# Altium integrated library Linear Technology PMIC-Switching Reg LT1074-LT8705.IntLib: 2252 symbols (part 104 of 124)
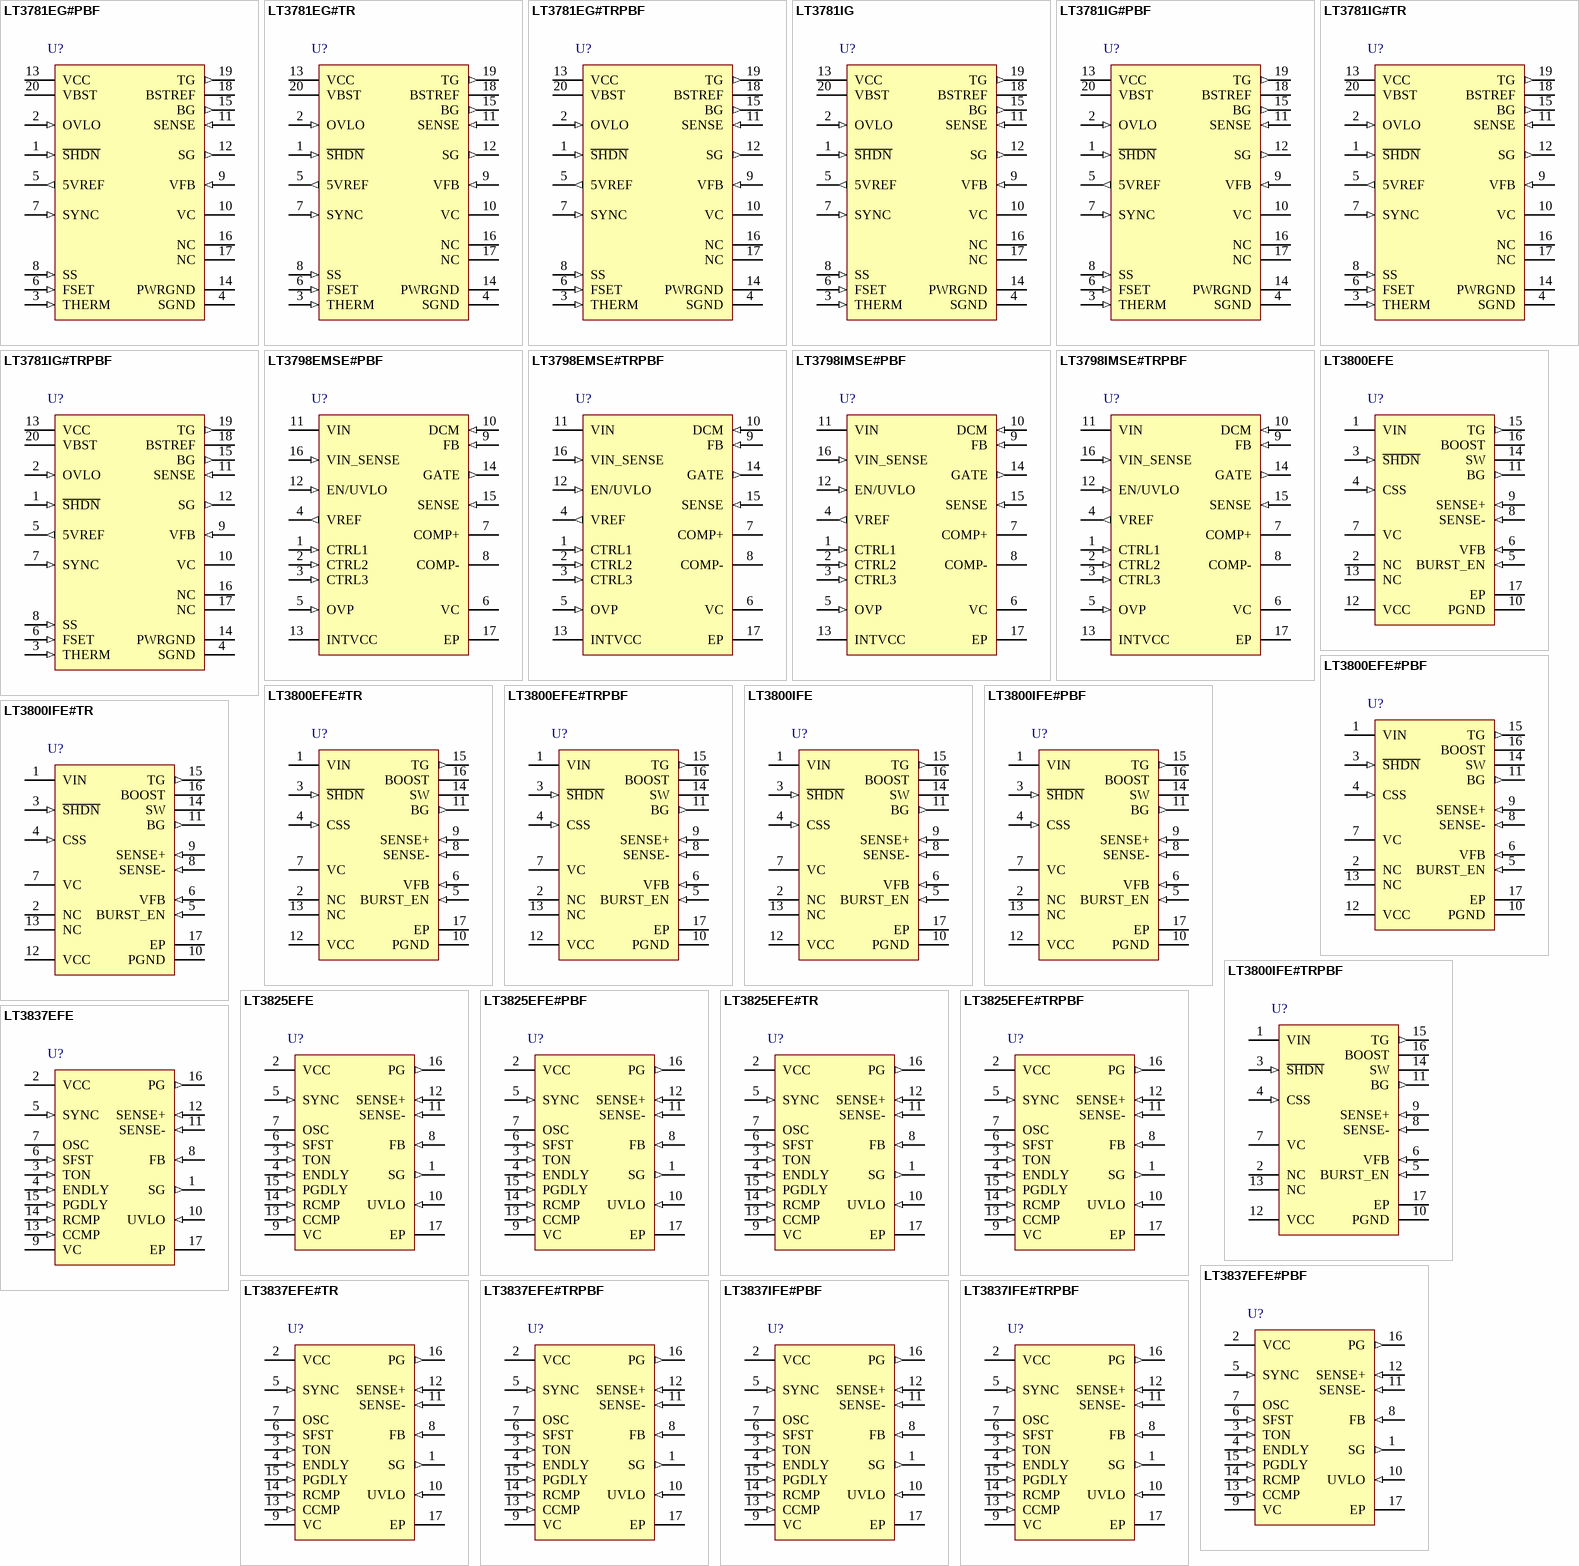
[diagram p174: symbols LT3781EG#PBF to LT3837IFE#TRPBF]

## LT3825EFE#TR
designator U?
Isolated No-Opto Synchronous Flyback Controller with Wide Input Supply Range, 16-pin SOP (FE-16-EPV-BC), -40 to 125 degC, Tape and Reel; Manufacturer: Linear Technology; PartNumber: LT3825EFE#TR; Number of Outputs: 1; PackageReference: FE-16; PackageDescription: 16-Pin Plastic TSSOP, Body 5 x 4.4 mm, Pitch 0.65 mm; RoHS: FALSE
footprint LT-FE-16-EPV-BC_N (SOP, 16-Leads, Body 5.1x4.5mm, Pitch 0.65mm, Thermal Pad 3.58x2.94mm, IPC Medium Density)
footprint LT-FE-16-EPV-BC_L (SOP, 16-Leads, Body 5.1x4.5mm, Pitch 0.65mm, Thermal Pad 3.58x2.94mm, IPC High Density)
footprint LT-FE-16-EPV-BC_M (SOP, 16-Leads, Body 5.1x4.5mm, Pitch 0.65mm, Thermal Pad 3.58x2.94mm, IPC Low Density)
pins: 1 SG (out) "Synchronous Gate Drive Output. This pin provides an output signal for a secondary-side synchronous switch. Large dynamic currents may flow during voltage transitions. See the Applications Information for details.", 2 VCC (power) "Supply Voltage Pin. Bypass this pin to ground with a 4.7uF capacitor or more.", 3 TON (in) "Pin for external programming resistor to set the minimum time that the primary switch is on for each cycle. Minimum turn-on facilitates the isolated feedback method. See Applications Information for details.", 4 ENDLY (in) "Pin for external programming resistor to set enable delay time. The enable delay time disables the feedback amplifier for a fixed time after the turn-off of the primary-side MOSFET. This allows the leakage inductance voltage (See Datasheet)", 5 SYNC (in) "Pin for synchronizing the internal oscillator with an external clock. The positive edge on a pulse causes the oscillator to discharge causing PG to go low (off) and SG high (on). The sync threshold is typically 1.53V. See (See Datasheet)", 6 SFST (in) "This pin, in conjunction with a capacitor to ground, controls the ramp-up of peak primary current as sensed through the sense resistor. This is used to control converter inrush current at start-up. The VC pin voltage cannot (See Datasheet)", 7 OSC "This pin in conjunction with an external capacitor defines the controller oscillator frequency. The frequency is approximately 100kHz ?100/COSC(pF).", 8 FB (in) "Pin for the feedback node for the power supply feedback amplifier. Feedback is usually sensed via a third winding and enabled during the flyback period. This pin also sinks additional current to compensate for load current (See Datasheet)", 9 VC "Pin used for frequency compensation for the switcher control loop. It is the output of the feedback amplifier and the input to the current comparator. Switcher frequency compensation components are normally placed on this (See Datasheet)", 10 UVLO (in) "A resistive divider from VIN to this pin sets an undervoltage lockout based upon VIN level (not VCC). When the UVLO pin is below its threshold, the gate drives are disabled, but the part draws its normal quiescent current (See Datasheet)", 11 SENSE- (in) "These pins are used to measure primary-side switch current through an external sense resistor. Peak primary-side current is used in the converter control loop. Make Kelvin connections to the sense resistor to reduce noise (See Datasheet)", 12 SENSE+ (in) "These pins are used to measure primary-side switch current through an external sense resistor. Peak primary-side current is used in the converter control loop. Make Kelvin connections to the sense resistor to reduce noise (See Datasheet)", 13 CCMP (in) "Pin for external filter capacitor for the optional load compensation function. Load compensation reduces the effects of parasitic resistances in the feedback sensing path. A 0.1uF ceramic capacitor suffices for most (See Datasheet)", 14 RCMP (in) "Pin for optional external load compensation resistor. Use of this pin allows for nominal compensation of parasitic resistances in the feedback sensing path. In less demanding applications, this resistor is not needed and (See Datasheet)", 15 PGDLY (in) "Pin for external programming resistor to set delay from synchronous gate turn-off to primary gate turn-on. See Applications Information for details.", 16 PG (out) "Gate Drive Pin for the Primary-Side MOSFET Switch. Large dynamic currents flow during voltage transitions. See the Applications Information for details.", 17 EP (power)

## LT3825EFE#TRPBF
designator U?
Isolated No-Opto Synchronous Flyback Controller with Wide Input Supply Range, 16-pin SOP (FE-16-EPV-BC), -40 to 125 degC, Pb-Free, Tape and Reel; Manufacturer: Linear Technology; PartNumber: LT3825EFE#TRPBF; Number of Outputs: 1; PackageReference: FE-16; PackageDescription: 16-Pin Plastic TSSOP, Body 5 x 4.4 mm, Pitch 0.65 mm; Supplier 1: Digi-Key; Supplier Part Number 1: LT3825EFE#TRPBF-ND; RoHS: TRUE
footprint LT-FE-16-EPV-BC_N (SOP, 16-Leads, Body 5.1x4.5mm, Pitch 0.65mm, Thermal Pad 3.58x2.94mm, IPC Medium Density)
footprint LT-FE-16-EPV-BC_L (SOP, 16-Leads, Body 5.1x4.5mm, Pitch 0.65mm, Thermal Pad 3.58x2.94mm, IPC High Density)
footprint LT-FE-16-EPV-BC_M (SOP, 16-Leads, Body 5.1x4.5mm, Pitch 0.65mm, Thermal Pad 3.58x2.94mm, IPC Low Density)
pins: 1 SG (out) "Synchronous Gate Drive Output. This pin provides an output signal for a secondary-side synchronous switch. Large dynamic currents may flow during voltage transitions. See the Applications Information for details.", 2 VCC (power) "Supply Voltage Pin. Bypass this pin to ground with a 4.7uF capacitor or more.", 3 TON (in) "Pin for external programming resistor to set the minimum time that the primary switch is on for each cycle. Minimum turn-on facilitates the isolated feedback method. See Applications Information for details.", 4 ENDLY (in) "Pin for external programming resistor to set enable delay time. The enable delay time disables the feedback amplifier for a fixed time after the turn-off of the primary-side MOSFET. This allows the leakage inductance voltage (See Datasheet)", 5 SYNC (in) "Pin for synchronizing the internal oscillator with an external clock. The positive edge on a pulse causes the oscillator to discharge causing PG to go low (off) and SG high (on). The sync threshold is typically 1.53V. See (See Datasheet)", 6 SFST (in) "This pin, in conjunction with a capacitor to ground, controls the ramp-up of peak primary current as sensed through the sense resistor. This is used to control converter inrush current at start-up. The VC pin voltage cannot (See Datasheet)", 7 OSC "This pin in conjunction with an external capacitor defines the controller oscillator frequency. The frequency is approximately 100kHz ?100/COSC(pF).", 8 FB (in) "Pin for the feedback node for the power supply feedback amplifier. Feedback is usually sensed via a third winding and enabled during the flyback period. This pin also sinks additional current to compensate for load current (See Datasheet)", 9 VC "Pin used for frequency compensation for the switcher control loop. It is the output of the feedback amplifier and the input to the current comparator. Switcher frequency compensation components are normally placed on this (See Datasheet)", 10 UVLO (in) "A resistive divider from VIN to this pin sets an undervoltage lockout based upon VIN level (not VCC). When the UVLO pin is below its threshold, the gate drives are disabled, but the part draws its normal quiescent current (See Datasheet)", 11 SENSE- (in) "These pins are used to measure primary-side switch current through an external sense resistor. Peak primary-side current is used in the converter control loop. Make Kelvin connections to the sense resistor to reduce noise (See Datasheet)", 12 SENSE+ (in) "These pins are used to measure primary-side switch current through an external sense resistor. Peak primary-side current is used in the converter control loop. Make Kelvin connections to the sense resistor to reduce noise (See Datasheet)", 13 CCMP (in) "Pin for external filter capacitor for the optional load compensation function. Load compensation reduces the effects of parasitic resistances in the feedback sensing path. A 0.1uF ceramic capacitor suffices for most (See Datasheet)", 14 RCMP (in) "Pin for optional external load compensation resistor. Use of this pin allows for nominal compensation of parasitic resistances in the feedback sensing path. In less demanding applications, this resistor is not needed and (See Datasheet)", 15 PGDLY (in) "Pin for external programming resistor to set delay from synchronous gate turn-off to primary gate turn-on. See Applications Information for details.", 16 PG (out) "Gate Drive Pin for the Primary-Side MOSFET Switch. Large dynamic currents flow during voltage transitions. See the Applications Information for details.", 17 EP (power)

## LT3837EFE
designator U?
Isolated No-Opto Synchronous Flyback Controller, 16-pin SOP (FE-16-EPV-BC), -40 to 125 degC; Manufacturer: Linear Technology; PartNumber: LT3837EFE; Number of Outputs: 1; PackageReference: FE-16; PackageDescription: 16-Pin Plastic TSSOP, Body 5 x 4.4 mm, Pitch 0.65 mm; RoHS: FALSE
footprint LT-FE-16-EPV-BC_N (SOP, 16-Leads, Body 5.1x4.5mm, Pitch 0.65mm, Thermal Pad 3.58x2.94mm, IPC Medium Density)
footprint LT-FE-16-EPV-BC_L (SOP, 16-Leads, Body 5.1x4.5mm, Pitch 0.65mm, Thermal Pad 3.58x2.94mm, IPC High Density)
footprint LT-FE-16-EPV-BC_M (SOP, 16-Leads, Body 5.1x4.5mm, Pitch 0.65mm, Thermal Pad 3.58x2.94mm, IPC Low Density)
pins: 1 SG (out) "Synchronous Gate Drive Output. This pin provides an output signal for a secondary-side synchronous switch. Large dynamic currents may flow during voltage transitions. See the Applications Information for details.", 2 VCC (power) "Supply Voltage Pin. Bypass this pin to ground with a 4.7uF capacitor or more.", 3 TON (in) "Pin for external programming resistor to set the minimum time that the primary switch is on for each cycle. Minimum turn-on facilitates the isolated feedback method. See Applications Information for details.", 4 ENDLY (in) "Pin for external programming resistor to set enable delay time. The enable delay time disables the feedback amplifier for a fixed time after the turn-off of the primary-side MOSFET. This allows the leakage inductance voltage (See Datasheet)", 5 SYNC (in) "Pin for synchronizing the internal oscillator with an external clock. The positive edge on a pulse causes the oscillator to discharge causing PG to go low (off) and SG high (on). The sync threshold is typically 1.53V. See (See Datasheet)", 6 SFST (in) "This pin, in conjunction with a capacitor to ground, controls the ramp-up of peak primary current as sensed through the sense resistor. This is used to control converter inrush current at start-up. The VC pin voltage cannot (See Datasheet)", 7 OSC "This pin in conjunction with an external capacitor defines the controller oscillator frequency. The frequency is approximately 100kHz ?100/COSC(pF).", 8 FB (in) "Pin for the feedback node for the power supply feedback amplifier. Feedback is usually sensed via a third winding and enabled during the flyback period. This pin also sinks additional current to compensate for load current (See Datasheet)", 9 VC "Pin used for frequency compensation for the switcher control loop. It is the output of the feedback amplifier and the input to the current comparator. Switcher frequency compensation components are normally placed on this (See Datasheet)", 10 UVLO (in) "A resistive divider from VIN to this pin sets an undervoltage lockout based upon VIN level (not VCC). When the UVLO pin is below its threshold, the gate drives are disabled, but the part draws its normal quiescent current (See Datasheet)", 11 SENSE- (in) "These pins are used to measure primary-side switch current through an external sense resistor. Peak primary-side current is used in the converter control loop. Make Kelvin connections to the sense resistor to reduce noise (See Datasheet)", 12 SENSE+ (in) "These pins are used to measure primary-side switch current through an external sense resistor. Peak primary-side current is used in the converter control loop. Make Kelvin connections to the sense resistor to reduce noise (See Datasheet)", 13 CCMP (in) "Pin for external filter capacitor for the optional load compensation function. Load compensation reduces the effects of parasitic resistances in the feedback sensing path. A 0.1uF ceramic capacitor suffices for most (See Datasheet)", 14 RCMP (in) "Pin for optional external load compensation resistor. Use of this pin allows for nominal compensation of parasitic resistances in the feedback sensing path. In less demanding applications, this resistor is not needed and (See Datasheet)", 15 PGDLY (in) "Pin for external programming resistor to set delay from synchronous gate turn-off to primary gate turn-on. See Applications Information for details.", 16 PG (out) "Gate Drive Pin for the Primary-Side MOSFET Switch. Large dynamic currents flow during voltage transitions. See the Applications Information for details.", 17 EP (power)

## LT3837EFE#PBF
designator U?
Isolated No-Opto Synchronous Flyback Controller, 16-pin SOP (FE-16-EPV-BC), -40 to 125 degC, Pb-Free; Manufacturer: Linear Technology; PartNumber: LT3837EFE#PBF; Number of Outputs: 1; PackageReference: FE-16; PackageDescription: 16-Pin Plastic TSSOP, Body 5 x 4.4 mm, Pitch 0.65 mm; Supplier 1: Digi-Key; Supplier Part Number 1: LT3837EFE#PBF-ND; RoHS: TRUE
footprint LT-FE-16-EPV-BC_N (SOP, 16-Leads, Body 5.1x4.5mm, Pitch 0.65mm, Thermal Pad 3.58x2.94mm, IPC Medium Density)
footprint LT-FE-16-EPV-BC_L (SOP, 16-Leads, Body 5.1x4.5mm, Pitch 0.65mm, Thermal Pad 3.58x2.94mm, IPC High Density)
footprint LT-FE-16-EPV-BC_M (SOP, 16-Leads, Body 5.1x4.5mm, Pitch 0.65mm, Thermal Pad 3.58x2.94mm, IPC Low Density)
pins: 1 SG (out) "Synchronous Gate Drive Output. This pin provides an output signal for a secondary-side synchronous switch. Large dynamic currents may flow during voltage transitions. See the Applications Information for details.", 2 VCC (power) "Supply Voltage Pin. Bypass this pin to ground with a 4.7uF capacitor or more.", 3 TON (in) "Pin for external programming resistor to set the minimum time that the primary switch is on for each cycle. Minimum turn-on facilitates the isolated feedback method. See Applications Information for details.", 4 ENDLY (in) "Pin for external programming resistor to set enable delay time. The enable delay time disables the feedback amplifier for a fixed time after the turn-off of the primary-side MOSFET. This allows the leakage inductance voltage (See Datasheet)", 5 SYNC (in) "Pin for synchronizing the internal oscillator with an external clock. The positive edge on a pulse causes the oscillator to discharge causing PG to go low (off) and SG high (on). The sync threshold is typically 1.53V. See (See Datasheet)", 6 SFST (in) "This pin, in conjunction with a capacitor to ground, controls the ramp-up of peak primary current as sensed through the sense resistor. This is used to control converter inrush current at start-up. The VC pin voltage cannot (See Datasheet)", 7 OSC "This pin in conjunction with an external capacitor defines the controller oscillator frequency. The frequency is approximately 100kHz ?100/COSC(pF).", 8 FB (in) "Pin for the feedback node for the power supply feedback amplifier. Feedback is usually sensed via a third winding and enabled during the flyback period. This pin also sinks additional current to compensate for load current (See Datasheet)", 9 VC "Pin used for frequency compensation for the switcher control loop. It is the output of the feedback amplifier and the input to the current comparator. Switcher frequency compensation components are normally placed on this (See Datasheet)", 10 UVLO (in) "A resistive divider from VIN to this pin sets an undervoltage lockout based upon VIN level (not VCC). When the UVLO pin is below its threshold, the gate drives are disabled, but the part draws its normal quiescent current (See Datasheet)", 11 SENSE- (in) "These pins are used to measure primary-side switch current through an external sense resistor. Peak primary-side current is used in the converter control loop. Make Kelvin connections to the sense resistor to reduce noise (See Datasheet)", 12 SENSE+ (in) "These pins are used to measure primary-side switch current through an external sense resistor. Peak primary-side current is used in the converter control loop. Make Kelvin connections to the sense resistor to reduce noise (See Datasheet)", 13 CCMP (in) "Pin for external filter capacitor for the optional load compensation function. Load compensation reduces the effects of parasitic resistances in the feedback sensing path. A 0.1uF ceramic capacitor suffices for most (See Datasheet)", 14 RCMP (in) "Pin for optional external load compensation resistor. Use of this pin allows for nominal compensation of parasitic resistances in the feedback sensing path. In less demanding applications, this resistor is not needed and (See Datasheet)", 15 PGDLY (in) "Pin for external programming resistor to set delay from synchronous gate turn-off to primary gate turn-on. See Applications Information for details.", 16 PG (out) "Gate Drive Pin for the Primary-Side MOSFET Switch. Large dynamic currents flow during voltage transitions. See the Applications Information for details.", 17 EP (power)

## LT3837EFE#TR
designator U?
Isolated No-Opto Synchronous Flyback Controller, 16-pin SOP (FE-16-EPV-BC), -40 to 125 degC, Tape and Reel; Manufacturer: Linear Technology; PartNumber: LT3837EFE#TR; Number of Outputs: 1; PackageReference: FE-16; PackageDescription: 16-Pin Plastic TSSOP, Body 5 x 4.4 mm, Pitch 0.65 mm; RoHS: FALSE
footprint LT-FE-16-EPV-BC_N (SOP, 16-Leads, Body 5.1x4.5mm, Pitch 0.65mm, Thermal Pad 3.58x2.94mm, IPC Medium Density)
footprint LT-FE-16-EPV-BC_L (SOP, 16-Leads, Body 5.1x4.5mm, Pitch 0.65mm, Thermal Pad 3.58x2.94mm, IPC High Density)
footprint LT-FE-16-EPV-BC_M (SOP, 16-Leads, Body 5.1x4.5mm, Pitch 0.65mm, Thermal Pad 3.58x2.94mm, IPC Low Density)
pins: 1 SG (out) "Synchronous Gate Drive Output. This pin provides an output signal for a secondary-side synchronous switch. Large dynamic currents may flow during voltage transitions. See the Applications Information for details.", 2 VCC (power) "Supply Voltage Pin. Bypass this pin to ground with a 4.7uF capacitor or more.", 3 TON (in) "Pin for external programming resistor to set the minimum time that the primary switch is on for each cycle. Minimum turn-on facilitates the isolated feedback method. See Applications Information for details.", 4 ENDLY (in) "Pin for external programming resistor to set enable delay time. The enable delay time disables the feedback amplifier for a fixed time after the turn-off of the primary-side MOSFET. This allows the leakage inductance voltage (See Datasheet)", 5 SYNC (in) "Pin for synchronizing the internal oscillator with an external clock. The positive edge on a pulse causes the oscillator to discharge causing PG to go low (off) and SG high (on). The sync threshold is typically 1.53V. See (See Datasheet)", 6 SFST (in) "This pin, in conjunction with a capacitor to ground, controls the ramp-up of peak primary current as sensed through the sense resistor. This is used to control converter inrush current at start-up. The VC pin voltage cannot (See Datasheet)", 7 OSC "This pin in conjunction with an external capacitor defines the controller oscillator frequency. The frequency is approximately 100kHz ?100/COSC(pF).", 8 FB (in) "Pin for the feedback node for the power supply feedback amplifier. Feedback is usually sensed via a third winding and enabled during the flyback period. This pin also sinks additional current to compensate for load current (See Datasheet)", 9 VC "Pin used for frequency compensation for the switcher control loop. It is the output of the feedback amplifier and the input to the current comparator. Switcher frequency compensation components are normally placed on this (See Datasheet)", 10 UVLO (in) "A resistive divider from VIN to this pin sets an undervoltage lockout based upon VIN level (not VCC). When the UVLO pin is below its threshold, the gate drives are disabled, but the part draws its normal quiescent current (See Datasheet)", 11 SENSE- (in) "These pins are used to measure primary-side switch current through an external sense resistor. Peak primary-side current is used in the converter control loop. Make Kelvin connections to the sense resistor to reduce noise (See Datasheet)", 12 SENSE+ (in) "These pins are used to measure primary-side switch current through an external sense resistor. Peak primary-side current is used in the converter control loop. Make Kelvin connections to the sense resistor to reduce noise (See Datasheet)", 13 CCMP (in) "Pin for external filter capacitor for the optional load compensation function. Load compensation reduces the effects of parasitic resistances in the feedback sensing path. A 0.1uF ceramic capacitor suffices for most (See Datasheet)", 14 RCMP (in) "Pin for optional external load compensation resistor. Use of this pin allows for nominal compensation of parasitic resistances in the feedback sensing path. In less demanding applications, this resistor is not needed and (See Datasheet)", 15 PGDLY (in) "Pin for external programming resistor to set delay from synchronous gate turn-off to primary gate turn-on. See Applications Information for details.", 16 PG (out) "Gate Drive Pin for the Primary-Side MOSFET Switch. Large dynamic currents flow during voltage transitions. See the Applications Information for details.", 17 EP (power)

## LT3837EFE#TRPBF
designator U?
Isolated No-Opto Synchronous Flyback Controller, 16-pin SOP (FE-16-EPV-BC), -40 to 125 degC, Pb-Free, Tape and Reel; Manufacturer: Linear Technology; PartNumber: LT3837EFE#TRPBF; Number of Outputs: 1; PackageReference: FE-16; PackageDescription: 16-Pin Plastic TSSOP, Body 5 x 4.4 mm, Pitch 0.65 mm; Supplier 1: Digi-Key; Supplier Part Number 1: LT3837EFE#TRPBF-ND; RoHS: TRUE
footprint LT-FE-16-EPV-BC_N (SOP, 16-Leads, Body 5.1x4.5mm, Pitch 0.65mm, Thermal Pad 3.58x2.94mm, IPC Medium Density)
footprint LT-FE-16-EPV-BC_L (SOP, 16-Leads, Body 5.1x4.5mm, Pitch 0.65mm, Thermal Pad 3.58x2.94mm, IPC High Density)
footprint LT-FE-16-EPV-BC_M (SOP, 16-Leads, Body 5.1x4.5mm, Pitch 0.65mm, Thermal Pad 3.58x2.94mm, IPC Low Density)
pins: 1 SG (out) "Synchronous Gate Drive Output. This pin provides an output signal for a secondary-side synchronous switch. Large dynamic currents may flow during voltage transitions. See the Applications Information for details.", 2 VCC (power) "Supply Voltage Pin. Bypass this pin to ground with a 4.7uF capacitor or more.", 3 TON (in) "Pin for external programming resistor to set the minimum time that the primary switch is on for each cycle. Minimum turn-on facilitates the isolated feedback method. See Applications Information for details.", 4 ENDLY (in) "Pin for external programming resistor to set enable delay time. The enable delay time disables the feedback amplifier for a fixed time after the turn-off of the primary-side MOSFET. This allows the leakage inductance voltage (See Datasheet)", 5 SYNC (in) "Pin for synchronizing the internal oscillator with an external clock. The positive edge on a pulse causes the oscillator to discharge causing PG to go low (off) and SG high (on). The sync threshold is typically 1.53V. See (See Datasheet)", 6 SFST (in) "This pin, in conjunction with a capacitor to ground, controls the ramp-up of peak primary current as sensed through the sense resistor. This is used to control converter inrush current at start-up. The VC pin voltage cannot (See Datasheet)", 7 OSC "This pin in conjunction with an external capacitor defines the controller oscillator frequency. The frequency is approximately 100kHz ?100/COSC(pF).", 8 FB (in) "Pin for the feedback node for the power supply feedback amplifier. Feedback is usually sensed via a third winding and enabled during the flyback period. This pin also sinks additional current to compensate for load current (See Datasheet)", 9 VC "Pin used for frequency compensation for the switcher control loop. It is the output of the feedback amplifier and the input to the current comparator. Switcher frequency compensation components are normally placed on this (See Datasheet)", 10 UVLO (in) "A resistive divider from VIN to this pin sets an undervoltage lockout based upon VIN level (not VCC). When the UVLO pin is below its threshold, the gate drives are disabled, but the part draws its normal quiescent current (See Datasheet)", 11 SENSE- (in) "These pins are used to measure primary-side switch current through an external sense resistor. Peak primary-side current is used in the converter control loop. Make Kelvin connections to the sense resistor to reduce noise (See Datasheet)", 12 SENSE+ (in) "These pins are used to measure primary-side switch current through an external sense resistor. Peak primary-side current is used in the converter control loop. Make Kelvin connections to the sense resistor to reduce noise (See Datasheet)", 13 CCMP (in) "Pin for external filter capacitor for the optional load compensation function. Load compensation reduces the effects of parasitic resistances in the feedback sensing path. A 0.1uF ceramic capacitor suffices for most (See Datasheet)", 14 RCMP (in) "Pin for optional external load compensation resistor. Use of this pin allows for nominal compensation of parasitic resistances in the feedback sensing path. In less demanding applications, this resistor is not needed and (See Datasheet)", 15 PGDLY (in) "Pin for external programming resistor to set delay from synchronous gate turn-off to primary gate turn-on. See Applications Information for details.", 16 PG (out) "Gate Drive Pin for the Primary-Side MOSFET Switch. Large dynamic currents flow during voltage transitions. See the Applications Information for details.", 17 EP (power)

## LT3837IFE#PBF
designator U?
Isolated No-Opto Synchronous Flyback Controller, 16-pin SOP (FE-16-EPV-BC), -40 to 125 degC, Pb-Free; Manufacturer: Linear Technology; PartNumber: LT3837IFE#PBF; Number of Outputs: 1; PackageReference: FE-16; PackageDescription: 16-Pin Plastic TSSOP, Body 5 x 4.4 mm, Pitch 0.65 mm; Supplier 1: Digi-Key; Supplier Part Number 1: LT3837IFE#PBF-ND; RoHS: TRUE
footprint LT-FE-16-EPV-BC_N (SOP, 16-Leads, Body 5.1x4.5mm, Pitch 0.65mm, Thermal Pad 3.58x2.94mm, IPC Medium Density)
footprint LT-FE-16-EPV-BC_L (SOP, 16-Leads, Body 5.1x4.5mm, Pitch 0.65mm, Thermal Pad 3.58x2.94mm, IPC High Density)
footprint LT-FE-16-EPV-BC_M (SOP, 16-Leads, Body 5.1x4.5mm, Pitch 0.65mm, Thermal Pad 3.58x2.94mm, IPC Low Density)
pins: 1 SG (out) "Synchronous Gate Drive Output. This pin provides an output signal for a secondary-side synchronous switch. Large dynamic currents may flow during voltage transitions. See the Applications Information for details.", 2 VCC (power) "Supply Voltage Pin. Bypass this pin to ground with a 4.7uF capacitor or more.", 3 TON (in) "Pin for external programming resistor to set the minimum time that the primary switch is on for each cycle. Minimum turn-on facilitates the isolated feedback method. See Applications Information for details.", 4 ENDLY (in) "Pin for external programming resistor to set enable delay time. The enable delay time disables the feedback amplifier for a fixed time after the turn-off of the primary-side MOSFET. This allows the leakage inductance voltage (See Datasheet)", 5 SYNC (in) "Pin for synchronizing the internal oscillator with an external clock. The positive edge on a pulse causes the oscillator to discharge causing PG to go low (off) and SG high (on). The sync threshold is typically 1.53V. See (See Datasheet)", 6 SFST (in) "This pin, in conjunction with a capacitor to ground, controls the ramp-up of peak primary current as sensed through the sense resistor. This is used to control converter inrush current at start-up. The VC pin voltage cannot (See Datasheet)", 7 OSC "This pin in conjunction with an external capacitor defines the controller oscillator frequency. The frequency is approximately 100kHz ?100/COSC(pF).", 8 FB (in) "Pin for the feedback node for the power supply feedback amplifier. Feedback is usually sensed via a third winding and enabled during the flyback period. This pin also sinks additional current to compensate for load current (See Datasheet)", 9 VC "Pin used for frequency compensation for the switcher control loop. It is the output of the feedback amplifier and the input to the current comparator. Switcher frequency compensation components are normally placed on this (See Datasheet)", 10 UVLO (in) "A resistive divider from VIN to this pin sets an undervoltage lockout based upon VIN level (not VCC). When the UVLO pin is below its threshold, the gate drives are disabled, but the part draws its normal quiescent current (See Datasheet)", 11 SENSE- (in) "These pins are used to measure primary-side switch current through an external sense resistor. Peak primary-side current is used in the converter control loop. Make Kelvin connections to the sense resistor to reduce noise (See Datasheet)", 12 SENSE+ (in) "These pins are used to measure primary-side switch current through an external sense resistor. Peak primary-side current is used in the converter control loop. Make Kelvin connections to the sense resistor to reduce noise (See Datasheet)", 13 CCMP (in) "Pin for external filter capacitor for the optional load compensation function. Load compensation reduces the effects of parasitic resistances in the feedback sensing path. A 0.1uF ceramic capacitor suffices for most (See Datasheet)", 14 RCMP (in) "Pin for optional external load compensation resistor. Use of this pin allows for nominal compensation of parasitic resistances in the feedback sensing path. In less demanding applications, this resistor is not needed and (See Datasheet)", 15 PGDLY (in) "Pin for external programming resistor to set delay from synchronous gate turn-off to primary gate turn-on. See Applications Information for details.", 16 PG (out) "Gate Drive Pin for the Primary-Side MOSFET Switch. Large dynamic currents flow during voltage transitions. See the Applications Information for details.", 17 EP (power)

## LT3837IFE#TRPBF
designator U?
Isolated No-Opto Synchronous Flyback Controller, 16-pin SOP (FE-16-EPV-BC), -40 to 125 degC, Pb-Free, Tape and Reel; Manufacturer: Linear Technology; PartNumber: LT3837IFE#TRPBF; Number of Outputs: 1; PackageReference: FE-16; PackageDescription: 16-Pin Plastic TSSOP, Body 5 x 4.4 mm, Pitch 0.65 mm; Supplier 1: Digi-Key; Supplier Part Number 1: LT3837IFE#TRPBF-ND; RoHS: TRUE
footprint LT-FE-16-EPV-BC_N (SOP, 16-Leads, Body 5.1x4.5mm, Pitch 0.65mm, Thermal Pad 3.58x2.94mm, IPC Medium Density)
footprint LT-FE-16-EPV-BC_L (SOP, 16-Leads, Body 5.1x4.5mm, Pitch 0.65mm, Thermal Pad 3.58x2.94mm, IPC High Density)
footprint LT-FE-16-EPV-BC_M (SOP, 16-Leads, Body 5.1x4.5mm, Pitch 0.65mm, Thermal Pad 3.58x2.94mm, IPC Low Density)
pins: 1 SG (out) "Synchronous Gate Drive Output. This pin provides an output signal for a secondary-side synchronous switch. Large dynamic currents may flow during voltage transitions. See the Applications Information for details.", 2 VCC (power) "Supply Voltage Pin. Bypass this pin to ground with a 4.7uF capacitor or more.", 3 TON (in) "Pin for external programming resistor to set the minimum time that the primary switch is on for each cycle. Minimum turn-on facilitates the isolated feedback method. See Applications Information for details.", 4 ENDLY (in) "Pin for external programming resistor to set enable delay time. The enable delay time disables the feedback amplifier for a fixed time after the turn-off of the primary-side MOSFET. This allows the leakage inductance voltage (See Datasheet)", 5 SYNC (in) "Pin for synchronizing the internal oscillator with an external clock. The positive edge on a pulse causes the oscillator to discharge causing PG to go low (off) and SG high (on). The sync threshold is typically 1.53V. See (See Datasheet)", 6 SFST (in) "This pin, in conjunction with a capacitor to ground, controls the ramp-up of peak primary current as sensed through the sense resistor. This is used to control converter inrush current at start-up. The VC pin voltage cannot (See Datasheet)", 7 OSC "This pin in conjunction with an external capacitor defines the controller oscillator frequency. The frequency is approximately 100kHz ?100/COSC(pF).", 8 FB (in) "Pin for the feedback node for the power supply feedback amplifier. Feedback is usually sensed via a third winding and enabled during the flyback period. This pin also sinks additional current to compensate for load current (See Datasheet)", 9 VC "Pin used for frequency compensation for the switcher control loop. It is the output of the feedback amplifier and the input to the current comparator. Switcher frequency compensation components are normally placed on this (See Datasheet)", 10 UVLO (in) "A resistive divider from VIN to this pin sets an undervoltage lockout based upon VIN level (not VCC). When the UVLO pin is below its threshold, the gate drives are disabled, but the part draws its normal quiescent current (See Datasheet)", 11 SENSE- (in) "These pins are used to measure primary-side switch current through an external sense resistor. Peak primary-side current is used in the converter control loop. Make Kelvin connections to the sense resistor to reduce noise (See Datasheet)", 12 SENSE+ (in) "These pins are used to measure primary-side switch current through an external sense resistor. Peak primary-side current is used in the converter control loop. Make Kelvin connections to the sense resistor to reduce noise (See Datasheet)", 13 CCMP (in) "Pin for external filter capacitor for the optional load compensation function. Load compensation reduces the effects of parasitic resistances in the feedback sensing path. A 0.1uF ceramic capacitor suffices for most (See Datasheet)", 14 RCMP (in) "Pin for optional external load compensation resistor. Use of this pin allows for nominal compensation of parasitic resistances in the feedback sensing path. In less demanding applications, this resistor is not needed and (See Datasheet)", 15 PGDLY (in) "Pin for external programming resistor to set delay from synchronous gate turn-off to primary gate turn-on. See Applications Information for details.", 16 PG (out) "Gate Drive Pin for the Primary-Side MOSFET Switch. Large dynamic currents flow during voltage transitions. See the Applications Information for details.", 17 EP (power)

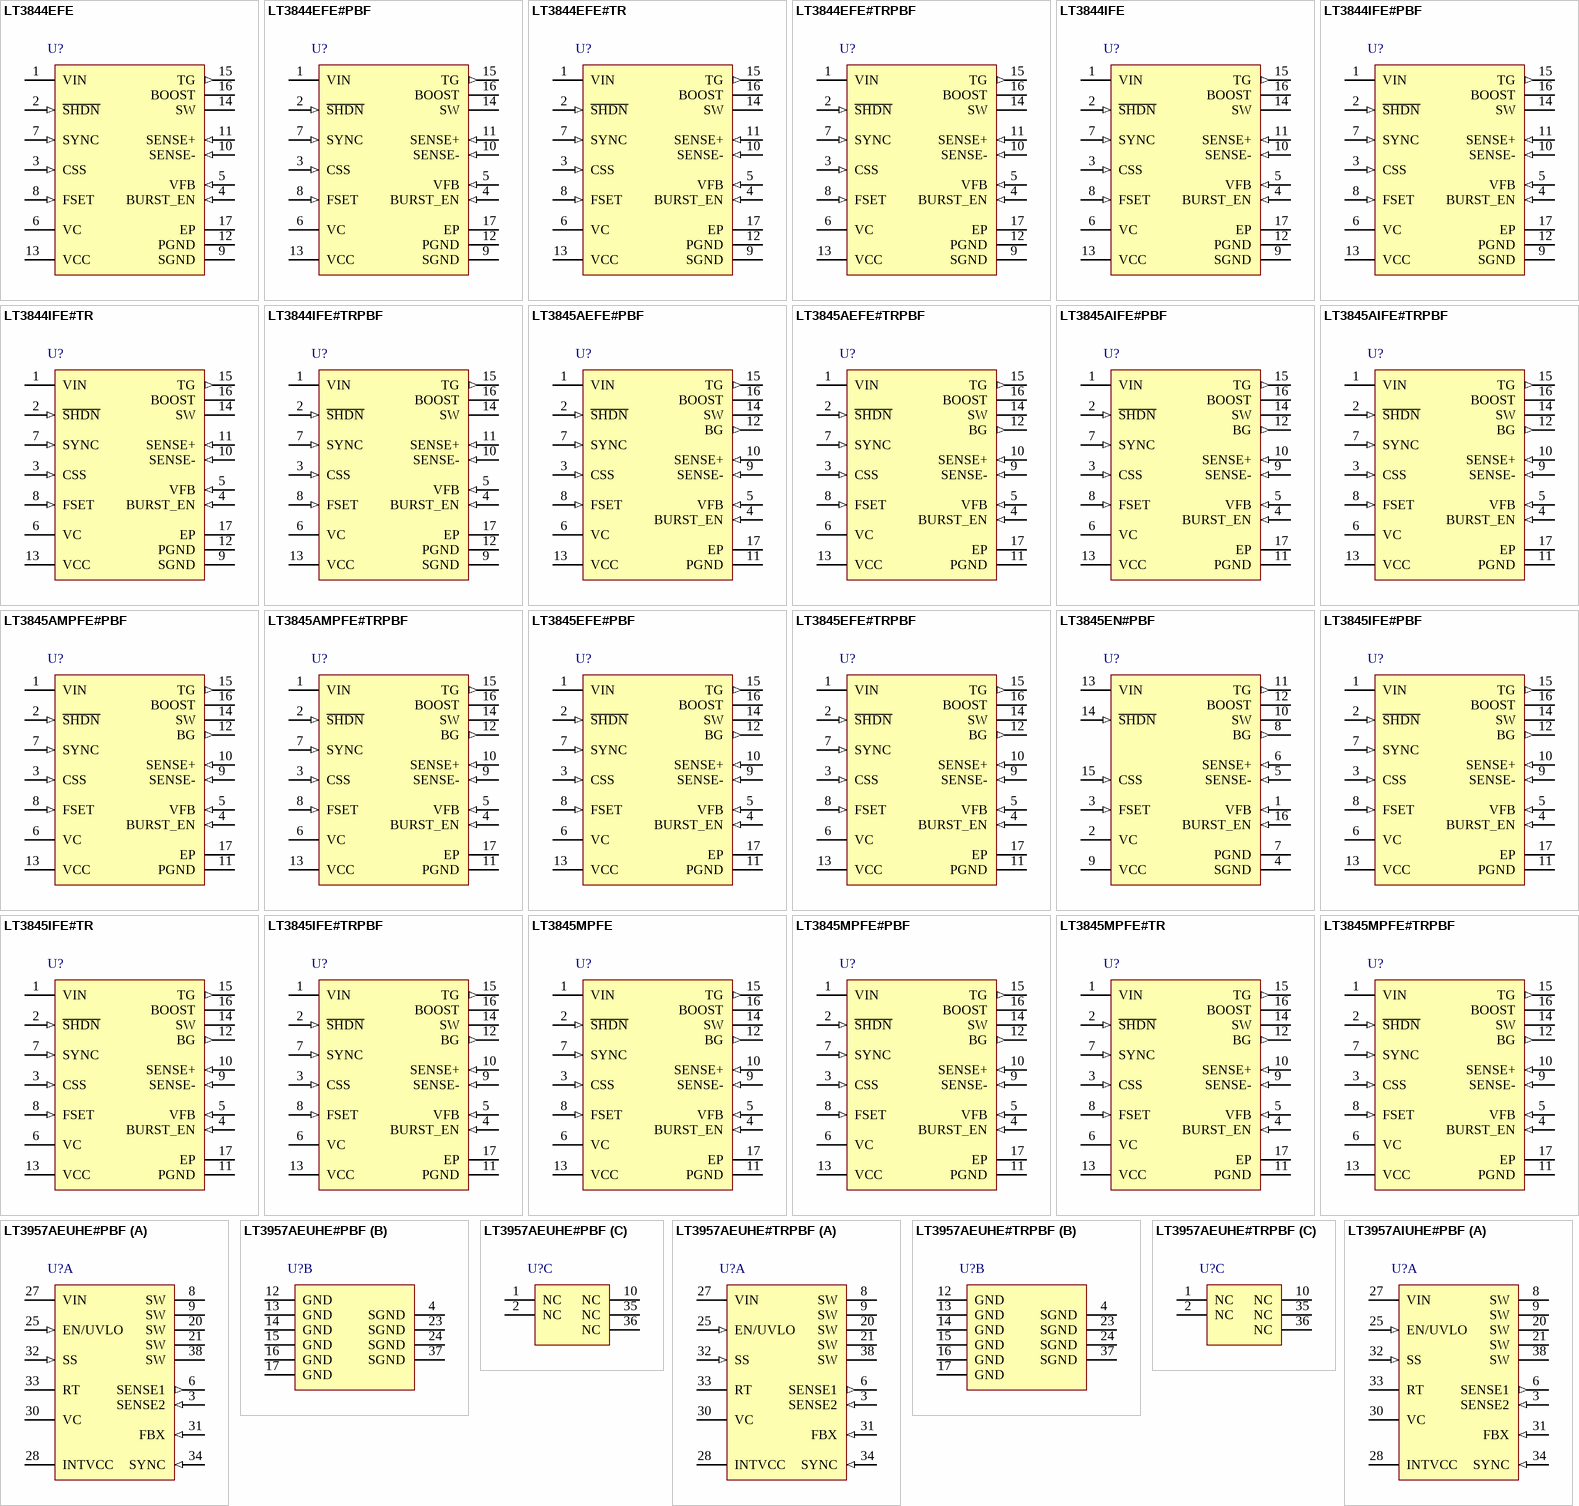
[diagram p60: symbols LT3844EFE to LT3957AIUHE#PBF]

## LT3844EFE
designator U?
High Voltage, Current Mode Switching Regulator Controller with Programmable Operating Frequency, 16-pin SOP (FE-16-EPV-BC), -40 to 125 degC; Manufacturer: Linear Technology; PartNumber: LT3844EFE; Number of Outputs: 1; PackageReference: FE-16; PackageDescription: 16-Pin Plastic TSSOP, Body 5 x 4.4 mm, Pitch 0.65 mm; Supplier 1: Newark; Supplier Part Number 1: 57M8628; RoHS: FALSE
footprint LT-FE-16-EPV-BC_N (SOP, 16-Leads, Body 5.1x4.5mm, Pitch 0.65mm, Thermal Pad 3.58x2.94mm, IPC Medium Density)
footprint LT-FE-16-EPV-BC_L (SOP, 16-Leads, Body 5.1x4.5mm, Pitch 0.65mm, Thermal Pad 3.58x2.94mm, IPC High Density)
footprint LT-FE-16-EPV-BC_M (SOP, 16-Leads, Body 5.1x4.5mm, Pitch 0.65mm, Thermal Pad 3.58x2.94mm, IPC Low Density)
pins: 1 VIN (power) "The VIN pin is the main supply pin and should  be decoupled to SGND with a low ESR capacitor located  close to the pin.", 2 ~{SHDN} (in) "The S\H\D\N\ pin has a precision IC enable threshold of 1.35V (rising) with 120mV of hysteresis. It is  used to implement an undervoltage lockout (UVLO) circuit. See Applications Information section for implementing a UVLO (See Datasheet)", 3 CSS (in) "The soft-start pin is used to program the supply soft-start function. Use the following formula to calculate CSS for a given output voltage slew rate:  CSS = 2uA(tSS/1.231V) The pin should be left unconnected when not using (See Datasheet)", 4 BURST_EN (in) "The BURST_EN pin is used to enable or disable Burst Mode operation. Connect the BURST_EN pin to ground to enable the burst mode function. Connect the pin to VFB or VCC to disable the Burst Mode function.", 5 VFB (in) "The output voltage feedback pin, VFB, is externally connected to the supply output voltage via a resistive divider. The VFB pin is internally connected to the inverting input of the error amplifier. In regulation, VFB is (See Datasheet)", 6 VC "The VC pin is the output of the error amplifier whose voltage corresponds to the maximum (peak) switch current per oscillator cycle. The error amplifier is typically configured as an integrator circuit by connecting (See Datasheet)", 7 SYNC (in) "The SYNC pin provides an external clock input for synchronization of the internal oscillator. RSET is set such that the internal oscillator frequency is 10% to 25% below the external clock frequency. If unused the SYNC pin (See Datasheet)", 8 FSET (in) "The FSET pin programs the oscillator frequency with an external resistor, RSET. The resistor is required even when supplying external sync clock signal. See the Applications Information section for resistor value selection (See Datasheet)", 9 SGND (power) "The SGND pin is the low noise ground reference. It should be connected to the -VOUT side of the output capacitors. Careful layout of the PCB is necessary to keep high currents away from this SGND connection. See the (See Datasheet)", 10 SENSE- (in) "The SENSE- pin is the negative input for the current sense amplifier and is connected to the VOUTside of the sense resistor for step-down applications. The sensed inductor current limit is set to 100mV across the SENS(See Datasheet)", 11 SENSE+ (in) "The SENSE+ pin is the positive input for the current sense amplifier and is connected to the inductor side of the sense resistor for step-down applications. The sensed inductor current limit is set to 100mV across th(See Datasheet)", 12 PGND (power) "The PGND pin is the high current ground reference for internal low side switch and the VCC regulator circuit. Connect the pin directly to the negative terminal of the VCC decoupling capacitor. See the Applications (See Datasheet)", 13 VCC (power) "The VCC pin is the internal bias supply decoupling node. Use a low ESR 1uF or greater ceramic capacitor to decouple this node to PGND. Most internal IC functions are powered from this bias supply. An external diode connected (See Datasheet)", 14 SW "In step-down applications the SW pin is connected to the cathode of an external clamping Schottky diode, the drain of the power MOSFET and the inductor. The SW node voltage swing is from VIN during the ontime of the power (See Datasheet)", 15 TG (out) "The TG pin is the bootstrapped gate drive for the top N-Channel MOSFET. Since very fast high currents are driven from this pin, connect it to the gate of the power MOSFET with a short and wide, typically 0.02" width, PCB (See Datasheet)", 16 BOOST "The BOOST pin is the supply for the bootstrapped gate drive and is externally connected to a low ESR ceramic boost capacitor referenced to SW pin. The recommended value of the BOOST capacitor, CBOOST, is 50 times greater (See Datasheet)", 17 EP (power) "SGND. The exposed leadframe is internally connected to the SGND pin. Solder the exposed pad to the PCB ground for electrical contact and optimal thermal performance."

## LT3844EFE#PBF
designator U?
High Voltage, Current Mode Switching Regulator Controller with Programmable Operating Frequency, 16-pin SOP (FE-16-EPV-BC), -40 to 125 degC, Pb-Free; Manufacturer: Linear Technology; PartNumber: LT3844EFE#PBF; Number of Outputs: 1; PackageReference: FE-16; PackageDescription: 16-Pin Plastic TSSOP, Body 5 x 4.4 mm, Pitch 0.65 mm; Supplier 1: Digi-Key; Supplier Part Number 1: LT3844EFE#PBF-ND; RoHS: TRUE
footprint LT-FE-16-EPV-BC_N (SOP, 16-Leads, Body 5.1x4.5mm, Pitch 0.65mm, Thermal Pad 3.58x2.94mm, IPC Medium Density)
footprint LT-FE-16-EPV-BC_L (SOP, 16-Leads, Body 5.1x4.5mm, Pitch 0.65mm, Thermal Pad 3.58x2.94mm, IPC High Density)
footprint LT-FE-16-EPV-BC_M (SOP, 16-Leads, Body 5.1x4.5mm, Pitch 0.65mm, Thermal Pad 3.58x2.94mm, IPC Low Density)
pins: 1 VIN (power) "The VIN pin is the main supply pin and should  be decoupled to SGND with a low ESR capacitor located  close to the pin.", 2 ~{SHDN} (in) "The S\H\D\N\ pin has a precision IC enable threshold of 1.35V (rising) with 120mV of hysteresis. It is  used to implement an undervoltage lockout (UVLO) circuit. See Applications Information section for implementing a UVLO (See Datasheet)", 3 CSS (in) "The soft-start pin is used to program the supply soft-start function. Use the following formula to calculate CSS for a given output voltage slew rate:  CSS = 2uA(tSS/1.231V) The pin should be left unconnected when not using (See Datasheet)", 4 BURST_EN (in) "The BURST_EN pin is used to enable or disable Burst Mode operation. Connect the BURST_EN pin to ground to enable the burst mode function. Connect the pin to VFB or VCC to disable the Burst Mode function.", 5 VFB (in) "The output voltage feedback pin, VFB, is externally connected to the supply output voltage via a resistive divider. The VFB pin is internally connected to the inverting input of the error amplifier. In regulation, VFB is (See Datasheet)", 6 VC "The VC pin is the output of the error amplifier whose voltage corresponds to the maximum (peak) switch current per oscillator cycle. The error amplifier is typically configured as an integrator circuit by connecting (See Datasheet)", 7 SYNC (in) "The SYNC pin provides an external clock input for synchronization of the internal oscillator. RSET is set such that the internal oscillator frequency is 10% to 25% below the external clock frequency. If unused the SYNC pin (See Datasheet)", 8 FSET (in) "The FSET pin programs the oscillator frequency with an external resistor, RSET. The resistor is required even when supplying external sync clock signal. See the Applications Information section for resistor value selection (See Datasheet)", 9 SGND (power) "The SGND pin is the low noise ground reference. It should be connected to the -VOUT side of the output capacitors. Careful layout of the PCB is necessary to keep high currents away from this SGND connection. See the (See Datasheet)", 10 SENSE- (in) "The SENSE- pin is the negative input for the current sense amplifier and is connected to the VOUTside of the sense resistor for step-down applications. The sensed inductor current limit is set to 100mV across the SENS(See Datasheet)", 11 SENSE+ (in) "The SENSE+ pin is the positive input for the current sense amplifier and is connected to the inductor side of the sense resistor for step-down applications. The sensed inductor current limit is set to 100mV across th(See Datasheet)", 12 PGND (power) "The PGND pin is the high current ground reference for internal low side switch and the VCC regulator circuit. Connect the pin directly to the negative terminal of the VCC decoupling capacitor. See the Applications (See Datasheet)", 13 VCC (power) "The VCC pin is the internal bias supply decoupling node. Use a low ESR 1uF or greater ceramic capacitor to decouple this node to PGND. Most internal IC functions are powered from this bias supply. An external diode connected (See Datasheet)", 14 SW "In step-down applications the SW pin is connected to the cathode of an external clamping Schottky diode, the drain of the power MOSFET and the inductor. The SW node voltage swing is from VIN during the ontime of the power (See Datasheet)", 15 TG (out) "The TG pin is the bootstrapped gate drive for the top N-Channel MOSFET. Since very fast high currents are driven from this pin, connect it to the gate of the power MOSFET with a short and wide, typically 0.02" width, PCB (See Datasheet)", 16 BOOST "The BOOST pin is the supply for the bootstrapped gate drive and is externally connected to a low ESR ceramic boost capacitor referenced to SW pin. The recommended value of the BOOST capacitor, CBOOST, is 50 times greater (See Datasheet)", 17 EP (power) "SGND. The exposed leadframe is internally connected to the SGND pin. Solder the exposed pad to the PCB ground for electrical contact and optimal thermal performance."

## LT3844EFE#TR
designator U?
High Voltage, Current Mode Switching Regulator Controller with Programmable Operating Frequency, 16-pin SOP (FE-16-EPV-BC), -40 to 125 degC, Tape and Reel; Manufacturer: Linear Technology; PartNumber: LT3844EFE#TR; Number of Outputs: 1; PackageReference: FE-16; PackageDescription: 16-Pin Plastic TSSOP, Body 5 x 4.4 mm, Pitch 0.65 mm; RoHS: FALSE
footprint LT-FE-16-EPV-BC_N (SOP, 16-Leads, Body 5.1x4.5mm, Pitch 0.65mm, Thermal Pad 3.58x2.94mm, IPC Medium Density)
footprint LT-FE-16-EPV-BC_L (SOP, 16-Leads, Body 5.1x4.5mm, Pitch 0.65mm, Thermal Pad 3.58x2.94mm, IPC High Density)
footprint LT-FE-16-EPV-BC_M (SOP, 16-Leads, Body 5.1x4.5mm, Pitch 0.65mm, Thermal Pad 3.58x2.94mm, IPC Low Density)
pins: 1 VIN (power) "The VIN pin is the main supply pin and should  be decoupled to SGND with a low ESR capacitor located  close to the pin.", 2 ~{SHDN} (in) "The S\H\D\N\ pin has a precision IC enable threshold of 1.35V (rising) with 120mV of hysteresis. It is  used to implement an undervoltage lockout (UVLO) circuit. See Applications Information section for implementing a UVLO (See Datasheet)", 3 CSS (in) "The soft-start pin is used to program the supply soft-start function. Use the following formula to calculate CSS for a given output voltage slew rate:  CSS = 2uA(tSS/1.231V) The pin should be left unconnected when not using (See Datasheet)", 4 BURST_EN (in) "The BURST_EN pin is used to enable or disable Burst Mode operation. Connect the BURST_EN pin to ground to enable the burst mode function. Connect the pin to VFB or VCC to disable the Burst Mode function.", 5 VFB (in) "The output voltage feedback pin, VFB, is externally connected to the supply output voltage via a resistive divider. The VFB pin is internally connected to the inverting input of the error amplifier. In regulation, VFB is (See Datasheet)", 6 VC "The VC pin is the output of the error amplifier whose voltage corresponds to the maximum (peak) switch current per oscillator cycle. The error amplifier is typically configured as an integrator circuit by connecting (See Datasheet)", 7 SYNC (in) "The SYNC pin provides an external clock input for synchronization of the internal oscillator. RSET is set such that the internal oscillator frequency is 10% to 25% below the external clock frequency. If unused the SYNC pin (See Datasheet)", 8 FSET (in) "The FSET pin programs the oscillator frequency with an external resistor, RSET. The resistor is required even when supplying external sync clock signal. See the Applications Information section for resistor value selection (See Datasheet)", 9 SGND (power) "The SGND pin is the low noise ground reference. It should be connected to the -VOUT side of the output capacitors. Careful layout of the PCB is necessary to keep high currents away from this SGND connection. See the (See Datasheet)", 10 SENSE- (in) "The SENSE- pin is the negative input for the current sense amplifier and is connected to the VOUTside of the sense resistor for step-down applications. The sensed inductor current limit is set to 100mV across the SENS(See Datasheet)", 11 SENSE+ (in) "The SENSE+ pin is the positive input for the current sense amplifier and is connected to the inductor side of the sense resistor for step-down applications. The sensed inductor current limit is set to 100mV across th(See Datasheet)", 12 PGND (power) "The PGND pin is the high current ground reference for internal low side switch and the VCC regulator circuit. Connect the pin directly to the negative terminal of the VCC decoupling capacitor. See the Applications (See Datasheet)", 13 VCC (power) "The VCC pin is the internal bias supply decoupling node. Use a low ESR 1uF or greater ceramic capacitor to decouple this node to PGND. Most internal IC functions are powered from this bias supply. An external diode connected (See Datasheet)", 14 SW "In step-down applications the SW pin is connected to the cathode of an external clamping Schottky diode, the drain of the power MOSFET and the inductor. The SW node voltage swing is from VIN during the ontime of the power (See Datasheet)", 15 TG (out) "The TG pin is the bootstrapped gate drive for the top N-Channel MOSFET. Since very fast high currents are driven from this pin, connect it to the gate of the power MOSFET with a short and wide, typically 0.02" width, PCB (See Datasheet)", 16 BOOST "The BOOST pin is the supply for the bootstrapped gate drive and is externally connected to a low ESR ceramic boost capacitor referenced to SW pin. The recommended value of the BOOST capacitor, CBOOST, is 50 times greater (See Datasheet)", 17 EP (power) "SGND. The exposed leadframe is internally connected to the SGND pin. Solder the exposed pad to the PCB ground for electrical contact and optimal thermal performance."